# Altium schematic symbol library uart_connector.SchLib: 1 symbol
Pins are listed as number, name and electrical type; pins without a type are passive.

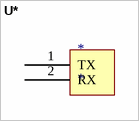
[diagram p0: symbol U*]

## U*
designator *
footprint PCBComponent_1
pins: 1 TX, 2 RX